# EAGLE library part LTC6244 (library IC)
http://www.national.com/profile/snip.cgi/openDS=LM3658
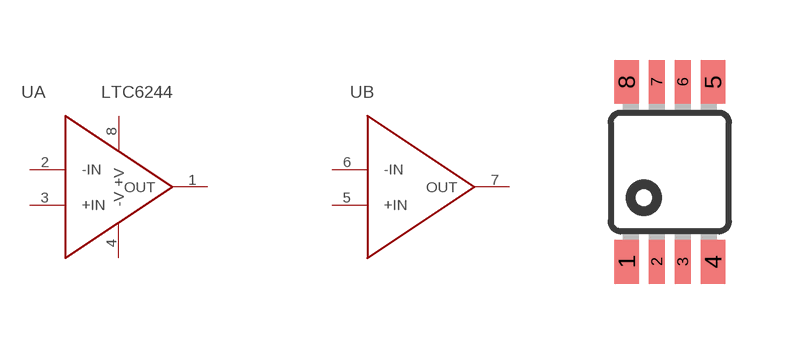
[diagram p69: symbol with the pads of MSOP8; footprint MSOP8]

Designator prefix U; gates A=LTC6244 B=LTC6244_2

## LTC6244  [MSOP8]
1  A:OUT
2  A:-IN
3  A:+IN
4  A:-V
5  B:+IN
6  B:-IN
7  B:OUT
8  A:+V

## Footprint MSOP8 (pad centres in mm)
8M, 8-Lead, 0.118" Wide, Miniature Small Outline Package MSOP 8M-Package doc1097.pdf
smd 0.61 x 1.1: 1 -1.08,-2.25; 4 1.08,-2.25; 5 1.08,2.25; 8 -1.08,2.25
smd 0.4 x 1.1: 2 -0.325,-2.25; 3 0.325,-2.25; 6 0.325,2.25; 7 -0.325,2.25